# Altium schematic symbol library Switch.SchLib: 1 symbol
Pins are listed as number, name and electrical type; pins without a type are passive.

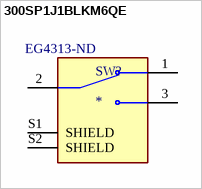
[diagram p0: symbol 300SP1J1BLKM6QE]

## 300SP1J1BLKM6QE
designator SW?  Supplier Part Number 1: EG4313-ND
Rocker Switch SPDT 5A (AC/DC) 120V Through Hole, Right Angle; MP: 300SP1J1BLKM6QE; MF: E-Switch; Value: *; Availability: Unavailable; Price: None; Package: None; SnapEDA_Link: https://www.snapeda.com/parts/300SP1J1BLKM6QE/E-Switch/view-part/585580/?ref=snap; Mouser-Purchase-URL: https://snapeda.com/shop?store=Mouser&id=585580; Supplier 1: Digi-Key
footprint SW_300SP1J1BLKM6QE
pins: 1, 2, 3, S1 SHIELD, S2 SHIELD